# Altium integrated library ON Semi MOSFETs.IntLib: 1097 symbols (part 13 of 26)
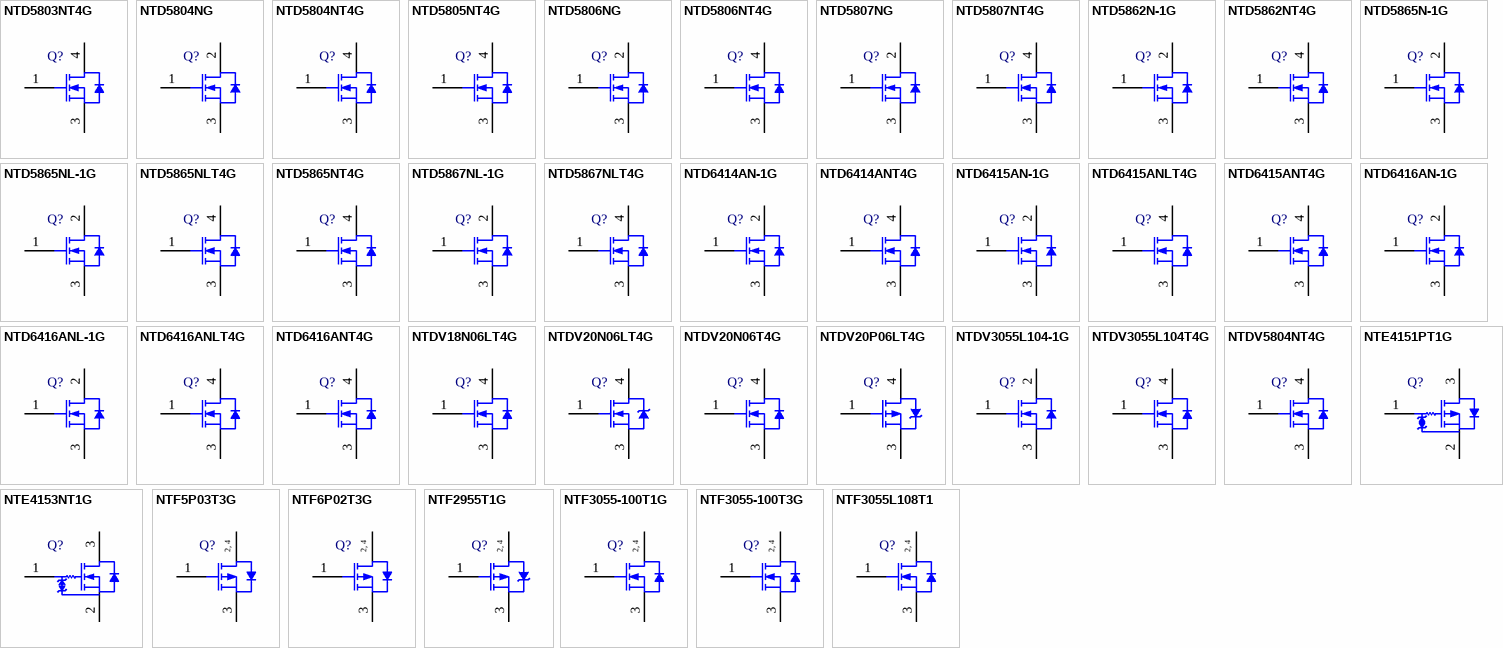
[diagram p43: symbols NTD5803NT4G to NTF3055L108T1]

## NTF2955T1G
designator Q?
Power MOSFET, -60 V, -2.6 A, Single P-Channel, 4-Pin SOT-223, Pb-Free, Tape and Reel; Manufacturer: On Semiconductor; PartNumber: NTF2955T1G; Channel Polarity: P Channel; Ciss Typ (pF): 492; Coss Typ (pF): 165; Crss Typ (pF): 50; ID Max (A): 2.6; Qrr Typ (nC): 0.139; V(BR)DSS Min (V): 60; VGS Max (V): 20; VGS(th) Max (V): 4; DatasheetVersion: Rev. 6; PackageVersion: Rev. N, 08/2009; PackageReference: SOT-223-4-318E-04; PackageDescription: 4-Pin Small Outline Transistor, Body 6.5 x 3.5 mm, Pitch 2.3 mm; Configuration: Single; Package Type: SOT-223-4 / TO-261-4; Packing: Tape and Reel; RoHS: Pb-Free; Mounting Technology: Surface Mount; ComponentLink1Description: Manufacturer URL; ComponentLink1URL: http://www.onsemi.com/; ComponentLink2Description: Datasheet; ComponentLink2URL: http://www.onsemi.com/pub_link/Collateral/NTF2955-D.PDF; ComponentLink3Description: Package Specification; ComponentLink3URL: http://www.onsemi.com/pub_link/Collateral/318E-04.PDF
footprint ONSC-SOT-223-4-318E-04_V (SOT223, 4-Leads, Body 6.5x3.5mm, Pitch 2.3mm)
pins: 1 G, 2 D, 3 S, 4 D
text: 2, 4

## NTF3055-100T1G
designator Q?
Power MOSFET, 3 A, 60 V, N-Channel, 4-Pin SOT-223, Pb-Free, Tape and Reel; Manufacturer: On Semiconductor; PartNumber: NTF3055-100T1G; Channel Polarity: N Channel; Ciss Typ (pF): 324; Configuration: Single; Coss Typ (pF): 35; Crss Typ (pF): 110; ID Max (A): 3; Qrr Typ (nC): 40; V(BR)DSS Min (V): 60; VGS(th) Max (V): 4; DatasheetVersion: Rev. 4; PackageVersion: Rev. N, 08/2009; PackageReference: SOT-223-4-318E-04; PackageDescription: 4-Pin Small Outline Transistor, Body 6.5 x 3.5 mm, Pitch 2.3 mm; Package Type: SOT-223-4 / TO-261-4; Packing: Tape and Reel; RoHS: Pb-Free; Mounting Technology: Surface Mount; ComponentLink1Description: Manufacturer URL; ComponentLink1URL: http://www.onsemi.com/; ComponentLink2Description: Datasheet; ComponentLink2URL: http://www.onsemi.com/pub_link/Collateral/NTF3055-100-D.PDF; ComponentLink3Description: Package Specification; ComponentLink3URL: http://www.onsemi.com/pub_link/Collateral/318E-04.PDF
footprint ONSC-SOT-223-4-318E-04_V (SOT223, 4-Leads, Body 6.5x3.5mm, Pitch 2.3mm)
pins: 1 G, 2 D, 3 S, 4 D
text: 2, 4

## NTF3055-100T3G
designator Q?
Power MOSFET, 3 A, 60 V, N-Channel, 4-Pin SOT-223, Pb-Free, Tape and Reel; Manufacturer: On Semiconductor; PartNumber: NTF3055-100T3G; Channel Polarity: N Channel; Ciss Typ (pF): 324; Configuration: Single; Coss Typ (pF): 35; Crss Typ (pF): 110; ID Max (A): 3; Qrr Typ (nC): 40; V(BR)DSS Min (V): 60; VGS(th) Max (V): 4; DatasheetVersion: Rev. 4; PackageVersion: Rev. N, 08/2009; PackageReference: SOT-223-4-318E-04; PackageDescription: 4-Pin Small Outline Transistor, Body 6.5 x 3.5 mm, Pitch 2.3 mm; Package Type: SOT-223-4 / TO-261-4; Packing: Tape and Reel; RoHS: Pb-Free; Mounting Technology: Surface Mount; ComponentLink1Description: Manufacturer URL; ComponentLink1URL: http://www.onsemi.com/; ComponentLink2Description: Datasheet; ComponentLink2URL: http://www.onsemi.com/pub_link/Collateral/NTF3055-100-D.PDF; ComponentLink3Description: Package Specification; ComponentLink3URL: http://www.onsemi.com/pub_link/Collateral/318E-04.PDF
footprint ONSC-SOT-223-4-318E-04_V (SOT223, 4-Leads, Body 6.5x3.5mm, Pitch 2.3mm)
pins: 1 G, 2 D, 3 S, 4 D
text: 2, 4

## NTF3055L108T1
designator Q?
Power MOSFET, 3 A, 60 V, Logic Level, N-Channel, 4-Pin SOT-223, Tape and Reel; Manufacturer: On Semiconductor; PartNumber: NTF3055L108T1; Channel Polarity: N Channel; Ciss Typ (pF): 313; Configuration: Single; Coss Typ (pF): 112; Crss Typ (pF): 40; Qrr Typ (nC): 44; V(BR)DSS Min (V): 60; VGS(th) Max (V): 2; DatasheetVersion: Rev. 6; PackageVersion: Rev. N, 08/2009; PackageReference: SOT-223-4-318E-04; PackageDescription: 4-Pin Small Outline Transistor, Body 6.5 x 3.5 mm, Pitch 2.3 mm; Package Type: SOT-223-4 / TO-261-4; Packing: Tape and Reel; Mounting Technology: Surface Mount; ComponentLink1Description: Manufacturer URL; ComponentLink1URL: http://www.onsemi.com/; ComponentLink2Description: Datasheet; ComponentLink2URL: http://www.onsemi.com/pub_link/Collateral/NTF3055L108-D.PDF; ComponentLink3Description: Package Specification; ComponentLink3URL: http://www.onsemi.com/pub_link/Collateral/318E-04.PDF
footprint ONSC-SOT-223-4-318E-04_V (SOT223, 4-Leads, Body 6.5x3.5mm, Pitch 2.3mm)
pins: 1 G, 2 D, 3 S, 4 D
text: 2, 4

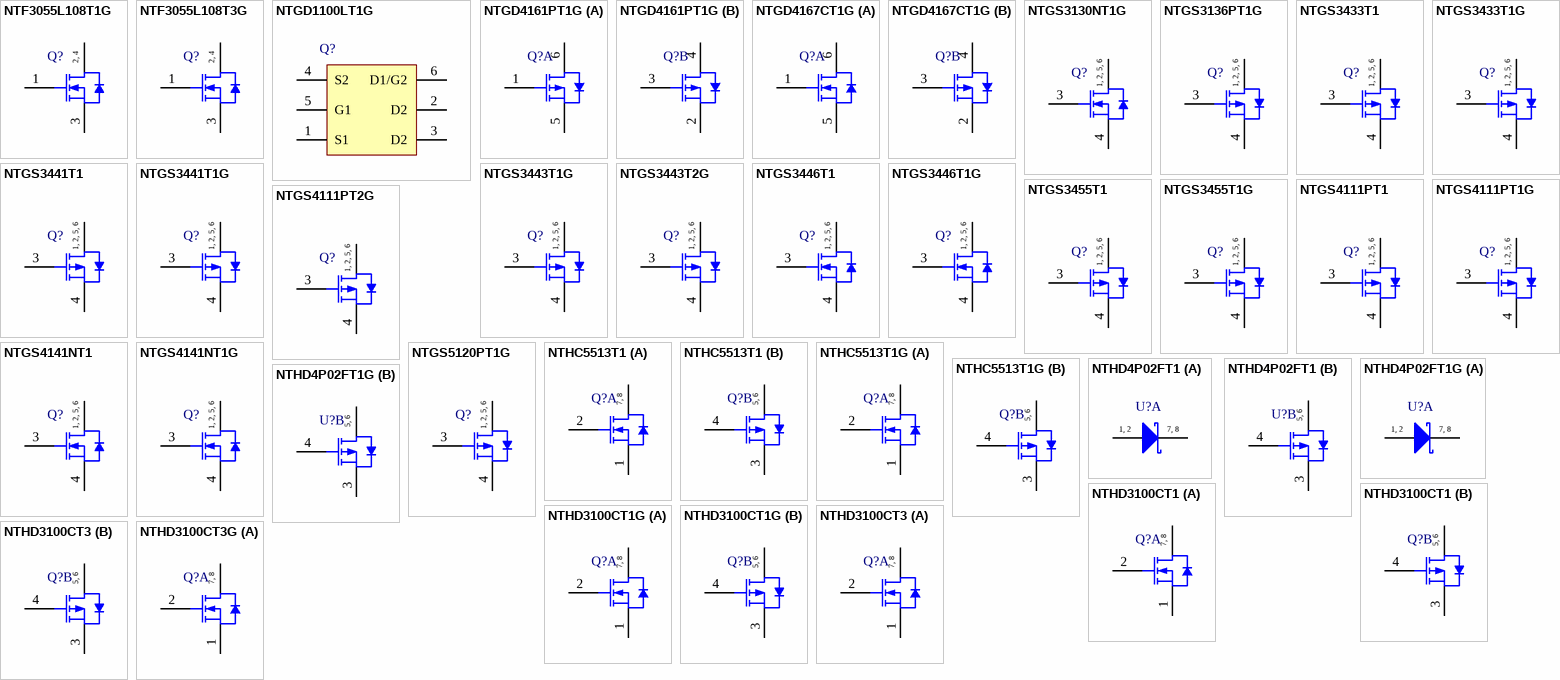
[diagram p14: symbols NTF3055L108T1G to NTHD3100CT3G]

## NTF3055L108T1G
designator Q?
Power MOSFET, 3 A, 60 V, Logic Level, N-Channel, 4-Pin SOT-223, Pb-Free, Tape and Reel; Manufacturer: On Semiconductor; PartNumber: NTF3055L108T1G; Channel Polarity: N Channel; Ciss Typ (pF): 313; Configuration: Single; Coss Typ (pF): 112; Crss Typ (pF): 40; Qrr Typ (nC): 44; V(BR)DSS Min (V): 60; VGS(th) Max (V): 2; DatasheetVersion: Rev. 6; PackageVersion: Rev. N, 08/2009; PackageReference: SOT-223-4-318E-04; PackageDescription: 4-Pin Small Outline Transistor, Body 6.5 x 3.5 mm, Pitch 2.3 mm; Package Type: SOT-223-4 / TO-261-4; Packing: Tape and Reel; RoHS: Pb-Free; Mounting Technology: Surface Mount; ComponentLink1Description: Manufacturer URL; ComponentLink1URL: http://www.onsemi.com/; ComponentLink2Description: Datasheet; ComponentLink2URL: http://www.onsemi.com/pub_link/Collateral/NTF3055L108-D.PDF; ComponentLink3Description: Package Specification; ComponentLink3URL: http://www.onsemi.com/pub_link/Collateral/318E-04.PDF
footprint ONSC-SOT-223-4-318E-04_V (SOT223, 4-Leads, Body 6.5x3.5mm, Pitch 2.3mm)
pins: 1 G, 2 D, 3 S, 4 D
text: 2, 4

## NTF3055L108T3G
designator Q?
Power MOSFET, 3 A, 60 V, Logic Level, N-Channel, 4-Pin SOT-223, Pb-Free, Tape and Reel; Manufacturer: On Semiconductor; PartNumber: NTF3055L108T3G; Channel Polarity: N Channel; Ciss Typ (pF): 313; Configuration: Single; Coss Typ (pF): 112; Crss Typ (pF): 40; Qrr Typ (nC): 44; V(BR)DSS Min (V): 60; VGS(th) Max (V): 2; DatasheetVersion: Rev. 6; PackageVersion: Rev. N, 08/2009; PackageReference: SOT-223-4-318E-04; PackageDescription: 4-Pin Small Outline Transistor, Body 6.5 x 3.5 mm, Pitch 2.3 mm; Package Type: SOT-223-4 / TO-261-4; Packing: Tape and Reel; RoHS: Pb-Free; Mounting Technology: Surface Mount; ComponentLink1Description: Manufacturer URL; ComponentLink1URL: http://www.onsemi.com/; ComponentLink2Description: Datasheet; ComponentLink2URL: http://www.onsemi.com/pub_link/Collateral/NTF3055L108-D.PDF; ComponentLink3Description: Package Specification; ComponentLink3URL: http://www.onsemi.com/pub_link/Collateral/318E-04.PDF
footprint ONSC-SOT-223-4-318E-04_V (SOT223, 4-Leads, Body 6.5x3.5mm, Pitch 2.3mm)
pins: 1 G, 2 D, 3 S, 4 D
text: 2, 4

## NTGD1100LT1G
designator Q?
Power MOSFET, 8 V, + / - 3.3 A, Load Switch with Level-Shift, P-Channel, 6-Pin TSOP, Pb-Free, Tape and Reel; Manufacturer: On Semiconductor; PartNumber: NTGD1100LT1G; Channel Polarity: P Channel; Configuration: Dual; ID Max (A): 3.3; DatasheetVersion: Rev. 10; PackageVersion: Rev. V, 06/2012; PackageReference: TSOP-6-318G-02; PackageDescription: 6-Pin Small Outline Package, Body 3 x 1.5 mm, Pitch 0.95 mm; Package Type: SC-74; Packing: Tape and Reel; RoHS: Pb-Free; Mounting Technology: Surface Mount; ComponentLink1Description: Manufacturer URL; ComponentLink1URL: http://www.onsemi.com/; ComponentLink2Description: Datasheet; ComponentLink2URL: http://www.onsemi.com/pub_link/Collateral/NTGD1100L-D.PDF; ComponentLink3Description: Package Specification; ComponentLink3URL: http://www.onsemi.com/pub_link/Collateral/318G-02.PDF
footprint ONSC-TSOP-6-318G-02_V (SOP, 6-Leads, Body 3x1.5mm, Pitch 0.95mm)
pins: 1 S1, 2 D2, 3 D2, 4 S2, 5 G1, 6 D1/G2

## NTGD4161PT1G
designator Q?
Power MOSFET, -30 V, -2.3 A, Dual P-Channel, 6-Pin TSOP, Pb-Free, Tape and Reel; Manufacturer: On Semiconductor; PartNumber: NTGD4161PT1G; Channel Polarity: P Channel; Ciss Typ (pF): 281; Coss Typ (pF): 50; Crss Typ (pF): 28; Qrr Typ (nC): 3; V(BR)DSS Min (V): 30; VGS Max (V): 20; DatasheetVersion: Rev. 1; PackageVersion: Rev. V, 06/2012; PackageReference: TSOP-6-318G-02; PackageDescription: 6-Pin Small Outline Package, Body 3 x 1.5 mm, Pitch 0.95 mm; Configuration: Dual; Package Type: TSOP-6; Packing: Tape and Reel; RoHS: Pb-Free; VGS(th) Max (V): 3; Mounting Technology: Surface Mount; ComponentLink1Description: Manufacturer URL; ComponentLink1URL: http://www.onsemi.com/; ComponentLink2Description: Datasheet; ComponentLink2URL: http://www.onsemi.com/pub_link/Collateral/NTGD4161P-D.PDF; ComponentLink3Description: Package Specification; ComponentLink3URL: http://www.onsemi.com/pub_link/Collateral/318G-02.PDF
footprint ONSC-TSOP-6-318G-02_V (SOP, 6-Leads, Body 3x1.5mm, Pitch 0.95mm)
part A pins: 1 G1, 5 S1, 6 D1
part B pins: 2 S2, 3 G2, 4 D2

## NTGD4167CT1G
designator Q?
Power MOSFET, Complementary, 30 V, +2.9 / -2.2 A, 6-Pin TSOP, Pb-Free, Tape and Reel; Manufacturer: On Semiconductor; PartNumber: NTGD4167CT1G; Configuration: Dual; V(BR)DSS Min (V): 30; VGS Max (V): 12; VGS(th) Max (V): 1.5; DatasheetVersion: Rev. 1; PackageVersion: Rev. V, 06/2012; PackageReference: TSOP-6-318G-02; PackageDescription: 6-Pin Small Outline Package, Body 3 x 1.5 mm, Pitch 0.95 mm; Channel Polarity: Complementary; Package Type: TSOP-6; Packing: Tape and Reel; RoHS: Pb-Free; Mounting Technology: Surface Mount; ComponentLink1Description: Manufacturer URL; ComponentLink1URL: http://www.onsemi.com/; ComponentLink2Description: Datasheet; ComponentLink2URL: http://www.onsemi.com/pub_link/Collateral/NTGD4167C-D.PDF; ComponentLink3Description: Package Specification; ComponentLink3URL: http://www.onsemi.com/pub_link/Collateral/318G-02.PDF
footprint ONSC-TSOP-6-318G-02_V (SOP, 6-Leads, Body 3x1.5mm, Pitch 0.95mm)
part A pins: 1 G1, 5 S1, 6 D1
part B pins: 2 S2, 3 G2, 4 D2

## NTGS3130NT1G
designator Q?
Power MOSFET, 20 V, 5.6 A Single, N-Channel, 6-Pin TSOP, Pb-Free, Tape and Reel; Manufacturer: On Semiconductor; PartNumber: NTGS3130NT1G; Channel Polarity: N Channel; Qrr Typ (nC): 8.8; V(BR)DSS Min (V): 20; VGS Max (V): 8; VGS(th) Max (V): 1.4; DatasheetVersion: Rev. 0; PackageVersion: Rev. V, 06/2012; PackageReference: TSOP-6-318G-02; PackageDescription: 6-Pin Small Outline Package, Body 3 x 1.5 mm, Pitch 0.95 mm; Configuration: Single; Package Type: TSOP-6; Packing: Tape and Reel; RoHS: Pb-Free; Mounting Technology: Surface Mount; ComponentLink1Description: Manufacturer URL; ComponentLink1URL: http://www.onsemi.com/; ComponentLink2Description: Datasheet; ComponentLink2URL: http://www.onsemi.com/pub_link/Collateral/NTGS3130N-D.PDF; ComponentLink3Description: Package Specification; ComponentLink3URL: http://www.onsemi.com/pub_link/Collateral/318G-02.PDF
footprint ONSC-TSOP-6-318G-02_V (SOP, 6-Leads, Body 3x1.5mm, Pitch 0.95mm)
pins: 1 D, 2 D, 3 G, 4 S, 5 D, 6 D
text: 1, 2, 5, 6

## NTGS3136PT1G
designator Q?
Power MOSFET, -20 V, -5.8 A, Single P-Channel, 6-Pin TSOP, Pb-Free, Tape and Reel; Manufacturer: On Semiconductor; PartNumber: NTGS3136PT1G; Channel Polarity: P Channel; Ciss Typ (pF): 1901; Coss Typ (pF): 274; Crss Typ (pF): 175; V(BR)DSS Min (V): 20; VGS Max (V): 8; VGS(th) Max (V): 1; DatasheetVersion: Rev. 0; PackageVersion: Rev. V, 06/2012; PackageReference: TSOP-6-318G-02; PackageDescription: 6-Pin Small Outline Package, Body 3 x 1.5 mm, Pitch 0.95 mm; Configuration: Single; Package Type: TSOP-6; Packing: Tape and Reel; RoHS: Pb-Free; Mounting Technology: Surface Mount; ComponentLink1Description: Manufacturer URL; ComponentLink1URL: http://www.onsemi.com/; ComponentLink2Description: Datasheet; ComponentLink2URL: http://www.onsemi.com/pub_link/Collateral/NTGS3136P-D.PDF; ComponentLink3Description: Package Specification; ComponentLink3URL: http://www.onsemi.com/pub_link/Collateral/318G-02.PDF
footprint ONSC-TSOP-6-318G-02_V (SOP, 6-Leads, Body 3x1.5mm, Pitch 0.95mm)
pins: 1 D, 2 D, 3 G, 4 S, 5 D, 6 D
text: 1, 2, 5, 6

## NTGS3433T1
designator Q?
MOSFET, -3.3 A, -12 V, P-Channel, 6-Pin TSOP, Tape and Reel; Manufacturer: On Semiconductor; PartNumber: NTGS3433T1; Channel Polarity: P Channel; Ciss Typ (pF): 550; Configuration: Single; Coss Typ (pF): 450; Crss Typ (pF): 200; ID Max (A): 3.3; V(BR)DSS Min (V): 12; VGS Max (V): 8; VGS(th) Max (V): 1.5; DatasheetVersion: Rev. 2; PackageVersion: Rev. V, 06/2012; PackageReference: TSOP-6-318G-02; PackageDescription: 6-Pin Small Outline Package, Body 3 x 1.5 mm, Pitch 0.95 mm; Package Type: TSOP-6; Packing: Tape and Reel; Mounting Technology: Surface Mount; ComponentLink1Description: Manufacturer URL; ComponentLink1URL: http://www.onsemi.com/; ComponentLink2Description: Datasheet; ComponentLink2URL: http://www.onsemi.com/pub_link/Collateral/NTGS3433T1-D.PDF; ComponentLink3Description: Package Specification; ComponentLink3URL: http://www.onsemi.com/pub_link/Collateral/318G-02.PDF
footprint ONSC-TSOP-6-318G-02_V (SOP, 6-Leads, Body 3x1.5mm, Pitch 0.95mm)
pins: 1 D, 2 D, 3 G, 4 S, 5 D, 6 D
text: 1, 2, 5, 6

## NTGS3433T1G
designator Q?
MOSFET, -3.3 A, -12 V, P-Channel, 6-Pin TSOP, Pb-Free, Tape and Reel; Manufacturer: On Semiconductor; PartNumber: NTGS3433T1G; Channel Polarity: P Channel; Ciss Typ (pF): 550; Configuration: Single; Coss Typ (pF): 450; Crss Typ (pF): 200; ID Max (A): 3.3; V(BR)DSS Min (V): 12; VGS Max (V): 8; VGS(th) Max (V): 1.5; DatasheetVersion: Rev. 2; PackageVersion: Rev. V, 06/2012; PackageReference: TSOP-6-318G-02; PackageDescription: 6-Pin Small Outline Package, Body 3 x 1.5 mm, Pitch 0.95 mm; Package Type: TSOP-6; Packing: Tape and Reel; RoHS: Pb-Free; Mounting Technology: Surface Mount; ComponentLink1Description: Manufacturer URL; ComponentLink1URL: http://www.onsemi.com/; ComponentLink2Description: Datasheet; ComponentLink2URL: http://www.onsemi.com/pub_link/Collateral/NTGS3433T1-D.PDF; ComponentLink3Description: Package Specification; ComponentLink3URL: http://www.onsemi.com/pub_link/Collateral/318G-02.PDF
footprint ONSC-TSOP-6-318G-02_V (SOP, 6-Leads, Body 3x1.5mm, Pitch 0.95mm)
pins: 1 D, 2 D, 3 G, 4 S, 5 D, 6 D
text: 1, 2, 5, 6

## NTGS3441T1
designator Q?
Power MOSFET, 1 A, 20 V, P-Channel, 6-Pin TSOP, Tape and Reel; Manufacturer: On Semiconductor; PartNumber: NTGS3441T1; Channel Polarity: P Channel; Ciss Typ (pF): 480; Configuration: Single; Coss Typ (pF): 265; Crss Typ (pF): 100; V(BR)DSS Min (V): 20; VGS Max (V): 8; VGS(th) Max (V): 1.5; DatasheetVersion: Rev. 6; PackageVersion: Rev. V, 06/2012; PackageReference: TSOP-6-318G-02; PackageDescription: 6-Pin Small Outline Package, Body 3 x 1.5 mm, Pitch 0.95 mm; Package Type: TSOP-6; Packing: Tape and Reel; Mounting Technology: Surface Mount; ComponentLink1Description: Manufacturer URL; ComponentLink1URL: http://www.onsemi.com/; ComponentLink2Description: Datasheet; ComponentLink2URL: http://www.onsemi.com/pub_link/Collateral/NTGS3441T1-D.PDF; ComponentLink3Description: Package Specification; ComponentLink3URL: http://www.onsemi.com/pub_link/Collateral/318G-02.PDF
footprint ONSC-TSOP-6-318G-02_V (SOP, 6-Leads, Body 3x1.5mm, Pitch 0.95mm)
pins: 1 D, 2 D, 3 G, 4 S, 5 D, 6 D
text: 1, 2, 5, 6

## NTGS3441T1G
designator Q?
Power MOSFET, 1 A, 20 V, P-Channel, 6-Pin TSOP, Pb-Free, Tape and Reel; Manufacturer: On Semiconductor; PartNumber: NTGS3441T1G; Channel Polarity: P Channel; Ciss Typ (pF): 480; Configuration: Single; Coss Typ (pF): 265; Crss Typ (pF): 100; V(BR)DSS Min (V): 20; VGS Max (V): 8; VGS(th) Max (V): 1.5; DatasheetVersion: Rev. 6; PackageVersion: Rev. V, 06/2012; PackageReference: TSOP-6-318G-02; PackageDescription: 6-Pin Small Outline Package, Body 3 x 1.5 mm, Pitch 0.95 mm; Package Type: TSOP-6; Packing: Tape and Reel; RoHS: Pb-Free; Mounting Technology: Surface Mount; ComponentLink1Description: Manufacturer URL; ComponentLink1URL: http://www.onsemi.com/; ComponentLink2Description: Datasheet; ComponentLink2URL: http://www.onsemi.com/pub_link/Collateral/NTGS3441T1-D.PDF; ComponentLink3Description: Package Specification; ComponentLink3URL: http://www.onsemi.com/pub_link/Collateral/318G-02.PDF
footprint ONSC-TSOP-6-318G-02_V (SOP, 6-Leads, Body 3x1.5mm, Pitch 0.95mm)
pins: 1 D, 2 D, 3 G, 4 S, 5 D, 6 D
text: 1, 2, 5, 6

## NTGS3443T1G
designator Q?
Power MOSFET, 4.4 A, 20 V, P-Channel, 6-Pin TSOP, Pb-Free, Tape and Reel; Manufacturer: On Semiconductor; PartNumber: NTGS3443T1G; Channel Polarity: P Channel; Ciss Typ (pF): 565; Configuration: Single; Coss Typ (pF): 320; Crss Typ (pF): 120; V(BR)DSS Min (V): 20; VGS Max (V): 12; VGS(th) Max (V): 1.5; DatasheetVersion: Rev. 5; PackageVersion: Rev. V, 06/2012; PackageReference: TSOP-6-318G-02; PackageDescription: 6-Pin Small Outline Package, Body 3 x 1.5 mm, Pitch 0.95 mm; Package Type: TSOP-6; Packing: Tape and Reel; RoHS: Pb-Free; Mounting Technology: Surface Mount; ComponentLink1Description: Manufacturer URL; ComponentLink1URL: http://www.onsemi.com/; ComponentLink2Description: Datasheet; ComponentLink2URL: http://www.onsemi.com/pub_link/Collateral/NTGS3443T1-D.PDF; ComponentLink3Description: Package Specification; ComponentLink3URL: http://www.onsemi.com/pub_link/Collateral/318G-02.PDF
footprint ONSC-TSOP-6-318G-02_V (SOP, 6-Leads, Body 3x1.5mm, Pitch 0.95mm)
pins: 1 D, 2 D, 3 G, 4 S, 5 D, 6 D
text: 1, 2, 5, 6

## NTGS3443T2G
designator Q?
Power MOSFET, 4.4 A, 20 V, P-Channel, 6-Pin TSOP, Pb-Free, Tape and Reel; Manufacturer: On Semiconductor; PartNumber: NTGS3443T2G; Channel Polarity: P Channel; Ciss Typ (pF): 565; Configuration: Single; Coss Typ (pF): 320; Crss Typ (pF): 120; V(BR)DSS Min (V): 20; VGS Max (V): 12; VGS(th) Max (V): 1.5; DatasheetVersion: Rev. 5; PackageVersion: Rev. V, 06/2012; PackageReference: TSOP-6-318G-02; PackageDescription: 6-Pin Small Outline Package, Body 3 x 1.5 mm, Pitch 0.95 mm; Package Type: TSOP-6; Packing: Tape and Reel; RoHS: Pb-Free; Mounting Technology: Surface Mount; ComponentLink1Description: Manufacturer URL; ComponentLink1URL: http://www.onsemi.com/; ComponentLink2Description: Datasheet; ComponentLink2URL: http://www.onsemi.com/pub_link/Collateral/NTGS3443T1-D.PDF; ComponentLink3Description: Package Specification; ComponentLink3URL: http://www.onsemi.com/pub_link/Collateral/318G-02.PDF
footprint ONSC-TSOP-6-318G-02_V (SOP, 6-Leads, Body 3x1.5mm, Pitch 0.95mm)
pins: 1 D, 2 D, 3 G, 4 S, 5 D, 6 D
text: 1, 2, 5, 6

## NTGS3446T1
designator Q?
Power MOSFET, 20 V, 5.1 A, Single N-Channel, 6-Pin TSOP, Tape and Reel; Manufacturer: On Semiconductor; PartNumber: NTGS3446T1; Channel Polarity: N Channel; Ciss Typ (pF): 510; Coss Typ (pF): 200; Crss Typ (pF): 60; ID Max (A): 5.1; Qrr Typ (nC): 10; V(BR)DSS Min (V): 20; VGS Max (V): 12; VGS(th) Max (V): 1.2; DatasheetVersion: Rev. 5; PackageVersion: Rev. V, 06/2012; PackageReference: TSOP-6-318G-02; PackageDescription: 6-Pin Small Outline Package, Body 3 x 1.5 mm, Pitch 0.95 mm; Configuration: Single; Package Type: TSOP-6; Packing: Tape and Reel; Mounting Technology: Surface Mount; ComponentLink1Description: Manufacturer URL; ComponentLink1URL: http://www.onsemi.com/; ComponentLink2Description: Datasheet; ComponentLink2URL: http://www.onsemi.com/pub_link/Collateral/NTGS3446-D.PDF; ComponentLink3Description: Package Specification; ComponentLink3URL: http://www.onsemi.com/pub_link/Collateral/318G-02.PDF
footprint ONSC-TSOP-6-318G-02_V (SOP, 6-Leads, Body 3x1.5mm, Pitch 0.95mm)
pins: 1 D, 2 D, 3 G, 4 S, 5 D, 6 D
text: 1, 2, 5, 6

## NTGS3446T1G
designator Q?
Power MOSFET, 20 V, 5.1 A, Single N-Channel, 6-Pin TSOP, Pb-Free, Tape and Reel; Manufacturer: On Semiconductor; PartNumber: NTGS3446T1G; Channel Polarity: N Channel; Ciss Typ (pF): 510; Coss Typ (pF): 200; Crss Typ (pF): 60; ID Max (A): 5.1; Qrr Typ (nC): 10; V(BR)DSS Min (V): 20; VGS Max (V): 12; VGS(th) Max (V): 1.2; DatasheetVersion: Rev. 5; PackageVersion: Rev. V, 06/2012; PackageReference: TSOP-6-318G-02; PackageDescription: 6-Pin Small Outline Package, Body 3 x 1.5 mm, Pitch 0.95 mm; Configuration: Single; Package Type: TSOP-6; Packing: Tape and Reel; RoHS: Pb-Free; Mounting Technology: Surface Mount; ComponentLink1Description: Manufacturer URL; ComponentLink1URL: http://www.onsemi.com/; ComponentLink2Description: Datasheet; ComponentLink2URL: http://www.onsemi.com/pub_link/Collateral/NTGS3446-D.PDF; ComponentLink3Description: Package Specification; ComponentLink3URL: http://www.onsemi.com/pub_link/Collateral/318G-02.PDF
footprint ONSC-TSOP-6-318G-02_V (SOP, 6-Leads, Body 3x1.5mm, Pitch 0.95mm)
pins: 1 D, 2 D, 3 G, 4 S, 5 D, 6 D
text: 1, 2, 5, 6

## NTGS3455T1
designator Q?
MOSFET, -3.5 A, -30 V, P-Channel, 6-Pin TSOP, Tape and Reel; Manufacturer: On Semiconductor; PartNumber: NTGS3455T1; Channel Polarity: P Channel; Ciss Typ (pF): 480; Configuration: Single; Coss Typ (pF): 220; Crss Typ (pF): 60; ID Max (A): 3.5; V(BR)DSS Min (V): 30; VGS Max (V): 20; VGS(th) Max (V): 3; DatasheetVersion: Rev. 3; PackageVersion: Rev. V, 06/2012; PackageReference: TSOP-6-318G-02; PackageDescription: 6-Pin Small Outline Package, Body 3 x 1.5 mm, Pitch 0.95 mm; Package Type: TSOP-6; Packing: Tape and Reel; Mounting Technology: Surface Mount; ComponentLink1Description: Manufacturer URL; ComponentLink1URL: http://www.onsemi.com/; ComponentLink2Description: Datasheet; ComponentLink2URL: http://www.onsemi.com/pub_link/Collateral/NTGS3455T1-D.PDF; ComponentLink3Description: Package Specification; ComponentLink3URL: http://www.onsemi.com/pub_link/Collateral/318G-02.PDF
footprint ONSC-TSOP-6-318G-02_V (SOP, 6-Leads, Body 3x1.5mm, Pitch 0.95mm)
pins: 1 D, 2 D, 3 G, 4 S, 5 D, 6 D
text: 1, 2, 5, 6

## NTGS3455T1G
designator Q?
MOSFET, -3.5 A, -30 V, P-Channel, 6-Pin TSOP, Pb-Free, Tape and Reel; Manufacturer: On Semiconductor; PartNumber: NTGS3455T1G; Channel Polarity: P Channel; Ciss Typ (pF): 480; Configuration: Single; Coss Typ (pF): 220; Crss Typ (pF): 60; ID Max (A): 3.5; V(BR)DSS Min (V): 30; VGS Max (V): 20; VGS(th) Max (V): 3; DatasheetVersion: Rev. 3; PackageVersion: Rev. V, 06/2012; PackageReference: TSOP-6-318G-02; PackageDescription: 6-Pin Small Outline Package, Body 3 x 1.5 mm, Pitch 0.95 mm; Package Type: TSOP-6; Packing: Tape and Reel; RoHS: Pb-Free; Mounting Technology: Surface Mount; ComponentLink1Description: Manufacturer URL; ComponentLink1URL: http://www.onsemi.com/; ComponentLink2Description: Datasheet; ComponentLink2URL: http://www.onsemi.com/pub_link/Collateral/NTGS3455T1-D.PDF; ComponentLink3Description: Package Specification; ComponentLink3URL: http://www.onsemi.com/pub_link/Collateral/318G-02.PDF
footprint ONSC-TSOP-6-318G-02_V (SOP, 6-Leads, Body 3x1.5mm, Pitch 0.95mm)
pins: 1 D, 2 D, 3 G, 4 S, 5 D, 6 D
text: 1, 2, 5, 6

## NTGS4111PT1
designator Q?
Power MOSFET, -30 V, -4.7 A, Single P-Channel, 6-Pin TSOP, Tape and Reel; Manufacturer: On Semiconductor; PartNumber: NTGS4111PT1; Channel Polarity: P Channel; Ciss Typ (pF): 750; Coss Typ (pF): 140; Crss Typ (pF): 105; ID Max (A): 4.7; Qrr Typ (nC): 8; V(BR)DSS Min (V): 30; VGS Max (V): 20; VGS(th) Max (V): 3; DatasheetVersion: Rev. 3; PackageVersion: Rev. V, 06/2012; PackageReference: TSOP-6-318G-02; PackageDescription: 6-Pin Small Outline Package, Body 3 x 1.5 mm, Pitch 0.95 mm; Configuration: Single; Package Type: TSOP-6; Packing: Tape and Reel; Mounting Technology: Surface Mount; ComponentLink1Description: Manufacturer URL; ComponentLink1URL: http://www.onsemi.com/; ComponentLink2Description: Datasheet; ComponentLink2URL: http://www.onsemi.com/pub_link/Collateral/NTGS4111P-D.PDF; ComponentLink3Description: Package Specification; ComponentLink3URL: http://www.onsemi.com/pub_link/Collateral/318G-02.PDF
footprint ONSC-TSOP-6-318G-02_V (SOP, 6-Leads, Body 3x1.5mm, Pitch 0.95mm)
pins: 1 D, 2 D, 3 G, 4 S, 5 D, 6 D
text: 1, 2, 5, 6

## NTGS4111PT1G
designator Q?
Power MOSFET, -30 V, -4.7 A, Single P-Channel, 6-Pin TSOP, Pb-Free, Tape and Reel; Manufacturer: On Semiconductor; PartNumber: NTGS4111PT1G; Channel Polarity: P Channel; Ciss Typ (pF): 750; Coss Typ (pF): 140; Crss Typ (pF): 105; ID Max (A): 4.7; Qrr Typ (nC): 8; V(BR)DSS Min (V): 30; VGS Max (V): 20; VGS(th) Max (V): 3; DatasheetVersion: Rev. 3; PackageVersion: Rev. V, 06/2012; PackageReference: TSOP-6-318G-02; PackageDescription: 6-Pin Small Outline Package, Body 3 x 1.5 mm, Pitch 0.95 mm; Configuration: Single; Package Type: TSOP-6; Packing: Tape and Reel; RoHS: Pb-Free; Mounting Technology: Surface Mount; ComponentLink1Description: Manufacturer URL; ComponentLink1URL: http://www.onsemi.com/; ComponentLink2Description: Datasheet; ComponentLink2URL: http://www.onsemi.com/pub_link/Collateral/NTGS4111P-D.PDF; ComponentLink3Description: Package Specification; ComponentLink3URL: http://www.onsemi.com/pub_link/Collateral/318G-02.PDF
footprint ONSC-TSOP-6-318G-02_V (SOP, 6-Leads, Body 3x1.5mm, Pitch 0.95mm)
pins: 1 D, 2 D, 3 G, 4 S, 5 D, 6 D
text: 1, 2, 5, 6

## NTGS4111PT2G
designator Q?
Power MOSFET, -30 V, -4.7 A, Single P-Channel, 6-Pin TSOP, Pb-Free, Tape and Reel; Manufacturer: On Semiconductor; PartNumber: NTGS4111PT2G; Channel Polarity: P Channel; Ciss Typ (pF): 750; Coss Typ (pF): 140; Crss Typ (pF): 105; ID Max (A): 4.7; Qrr Typ (nC): 8; V(BR)DSS Min (V): 30; VGS Max (V): 20; VGS(th) Max (V): 3; DatasheetVersion: Rev. 3; PackageVersion: Rev. V, 06/2012; PackageReference: TSOP-6-318G-02; PackageDescription: 6-Pin Small Outline Package, Body 3 x 1.5 mm, Pitch 0.95 mm; Configuration: Single; Package Type: TSOP-6; Packing: Tape and Reel; RoHS: Pb-Free; Mounting Technology: Surface Mount; ComponentLink1Description: Manufacturer URL; ComponentLink1URL: http://www.onsemi.com/; ComponentLink2Description: Datasheet; ComponentLink2URL: http://www.onsemi.com/pub_link/Collateral/NTGS4111P-D.PDF; ComponentLink3Description: Package Specification; ComponentLink3URL: http://www.onsemi.com/pub_link/Collateral/318G-02.PDF
footprint ONSC-TSOP-6-318G-02_V (SOP, 6-Leads, Body 3x1.5mm, Pitch 0.95mm)
pins: 1 D, 2 D, 3 G, 4 S, 5 D, 6 D
text: 1, 2, 5, 6

## NTGS4141NT1
designator Q?
Power MOSFET, 30 V, 7 A, Single N-Channel, 6-Pin TSOP, Tape and Reel; Manufacturer: On Semiconductor; PartNumber: NTGS4141NT1; Channel Polarity: N Channel; Ciss Typ (pF): 560; Coss Typ (pF): 115; Crss Typ (pF): 75; ID Max (A): 7; Qrr Typ (nC): 8; V(BR)DSS Min (V): 30; VGS Max (V): 20; VGS(th) Max (V): 3; DatasheetVersion: Rev. 5; PackageVersion: Rev. V, 06/2012; PackageReference: TSOP-6-318G-02; PackageDescription: 6-Pin Small Outline Package, Body 3 x 1.5 mm, Pitch 0.95 mm; Configuration: Single; Package Type: TSOP-6; Packing: Tape and Reel; Mounting Technology: Surface Mount; ComponentLink1Description: Manufacturer URL; ComponentLink1URL: http://www.onsemi.com/; ComponentLink2Description: Datasheet; ComponentLink2URL: http://www.onsemi.com/pub_link/Collateral/NTGS4141N-D.PDF; ComponentLink3Description: Package Specification; ComponentLink3URL: http://www.onsemi.com/pub_link/Collateral/318G-02.PDF
footprint ONSC-TSOP-6-318G-02_V (SOP, 6-Leads, Body 3x1.5mm, Pitch 0.95mm)
pins: 1 D, 2 D, 3 G, 4 S, 5 D, 6 D
text: 1, 2, 5, 6

## NTGS4141NT1G
designator Q?
Power MOSFET, 30 V, 7 A, Single N-Channel, 6-Pin TSOP, Pb-Free, Tape and Reel; Manufacturer: On Semiconductor; PartNumber: NTGS4141NT1G; Channel Polarity: N Channel; Ciss Typ (pF): 560; Coss Typ (pF): 115; Crss Typ (pF): 75; ID Max (A): 7; Qrr Typ (nC): 8; V(BR)DSS Min (V): 30; VGS Max (V): 20; VGS(th) Max (V): 3; DatasheetVersion: Rev. 5; PackageVersion: Rev. V, 06/2012; PackageReference: TSOP-6-318G-02; PackageDescription: 6-Pin Small Outline Package, Body 3 x 1.5 mm, Pitch 0.95 mm; Configuration: Single; Package Type: TSOP-6; Packing: Tape and Reel; RoHS: Pb-Free; Mounting Technology: Surface Mount; ComponentLink1Description: Manufacturer URL; ComponentLink1URL: http://www.onsemi.com/; ComponentLink2Description: Datasheet; ComponentLink2URL: http://www.onsemi.com/pub_link/Collateral/NTGS4141N-D.PDF; ComponentLink3Description: Package Specification; ComponentLink3URL: http://www.onsemi.com/pub_link/Collateral/318G-02.PDF
footprint ONSC-TSOP-6-318G-02_V (SOP, 6-Leads, Body 3x1.5mm, Pitch 0.95mm)
pins: 1 D, 2 D, 3 G, 4 S, 5 D, 6 D
text: 1, 2, 5, 6

## NTGS5120PT1G
designator Q?
Power MOSFET, -60 V, -2.9 A, Single P-Channel, 6-Pin TSOP, Pb-Free, Tape and Reel; Manufacturer: On Semiconductor; PartNumber: NTGS5120PT1G; Channel Polarity: P Channel; Ciss Typ (pF): 942; Coss Typ (pF): 72; Crss Typ (pF): 48; ID Max (A): 2.9; Qrr Typ (nC): 15.1; V(BR)DSS Min (V): 60; VGS Max (V): 20; VGS(th) Max (V): 3; DatasheetVersion: Rev. P0; PackageVersion: Rev. V, 06/2012; PackageReference: TSOP-6-318G-02; PackageDescription: 6-Pin Small Outline Package, Body 3 x 1.5 mm, Pitch 0.95 mm; Configuration: Single; Package Type: TSOP-6; Packing: Tape and Reel; RoHS: Pb-Free; Mounting Technology: Surface Mount; ComponentLink1Description: Manufacturer URL; ComponentLink1URL: http://www.onsemi.com/; ComponentLink2Description: Datasheet; ComponentLink2URL: http://www.onsemi.com/pub_link/Collateral/NTGS5120P-D.PDF; ComponentLink3Description: Package Specification; ComponentLink3URL: http://www.onsemi.com/pub_link/Collateral/318G-02.PDF
footprint ONSC-TSOP-6-318G-02_V (SOP, 6-Leads, Body 3x1.5mm, Pitch 0.95mm)
pins: 1 D, 2 D, 3 G, 4 S, 5 D, 6 D
text: 1, 2, 5, 6

## NTHC5513T1
designator Q?
Power MOSFET, 20 V, +3.9 A / -3 A, Comlementary, 8-Pin CHIPFET, Tape and Reel; Manufacturer: On Semiconductor; PartNumber: NTHC5513T1; Channel Polarity: Complementary; Configuration: Dual; V(BR)DSS Min (V): 20; VGS Max (V): 12; VGS(th) Max (V): 1.2; DatasheetVersion: Rev. 4; PackageVersion: Rev. E, 10/2004; PackageReference: CHIPFET-8-1206A-03_S2; PackageDescription: 8-Pin ChipFET, Body 3.025 x 1.625 mm, Pitch 0.635 mm; Package Type: ChipFET-8; Packing: Tape and Reel; Mounting Technology: Surface Mount; ComponentLink1Description: Manufacturer URL; ComponentLink1URL: http://www.onsemi.com/; ComponentLink2Description: Datasheet; ComponentLink2URL: http://www.onsemi.com/pub_link/Collateral/NTHC5513-D.PDF; ComponentLink3Description: Package Specification; ComponentLink3URL: http://www.onsemi.com/pub_link/Collateral/NTHC5513-D.PDF
footprint ONSC-CHIPFET-8-1206A-03_S2_V (SON, 8-Leads, Body 3.025x1.625mm, Pitch 0.635mm)
part A pins: 1 S1, 2 G1, 7 D1, 8 D1
part B pins: 3 S2, 4 G2, 5 D2, 6 D2
part A text: 7, 8
part B text: 5, 6

## NTHC5513T1G
designator Q?
Power MOSFET, 20 V, +3.9 A / -3 A, Comlementary, 8-Pin CHIPFET, Pb-Free, Tape and Reel; Manufacturer: On Semiconductor; PartNumber: NTHC5513T1G; Channel Polarity: Complementary; Configuration: Dual; V(BR)DSS Min (V): 20; VGS Max (V): 12; VGS(th) Max (V): 1.2; DatasheetVersion: Rev. 4; PackageVersion: Rev. E, 10/2004; PackageReference: CHIPFET-8-1206A-03_S2; PackageDescription: 8-Pin ChipFET, Body 3.025 x 1.625 mm, Pitch 0.635 mm; Package Type: ChipFET-8; Packing: Tape and Reel; RoHS: Pb-Free; Mounting Technology: Surface Mount; ComponentLink1Description: Manufacturer URL; ComponentLink1URL: http://www.onsemi.com/; ComponentLink2Description: Datasheet; ComponentLink2URL: http://www.onsemi.com/pub_link/Collateral/NTHC5513-D.PDF; ComponentLink3Description: Package Specification; ComponentLink3URL: http://www.onsemi.com/pub_link/Collateral/NTHC5513-D.PDF
footprint ONSC-CHIPFET-8-1206A-03_S2_V (SON, 8-Leads, Body 3.025x1.625mm, Pitch 0.635mm)
part A pins: 1 S1, 2 G1, 7 D1, 8 D1
part B pins: 3 S2, 4 G2, 5 D2, 6 D2
part A text: 7, 8
part B text: 5, 6

## NTHD4P02FT1
designator U?
Power MOSFET and Schottky Diode, -20 V, -3 A, Single P-Channel with 3 A, 8-Pin CHIPFET, Tape and Reel; Manufacturer: On Semiconductor; PartNumber: NTHD4P02FT1; Channel Polarity: P Channel; Ciss Typ (pF): 185; Configuration: with Schottky Diode; Coss Typ (pF): 95; Crss Typ (pF): 30; ID Max (A): 3; Qrr Typ (nC): 15; V(BR)DSS Min (V): 20; VGS Max (V): 12; VGS(th) Max (V): 1.2; DatasheetVersion: Rev. 7; PackageVersion: Rev. J, 11/2008; PackageReference: CHIPFET-8-1206A-03_S3; PackageDescription: 8-Pin ChipFET, Body 3.025 x 1.625 mm, Pitch 0.635 mm; Package Type: ChipFET-8; Packing: Tape and Reel; Mounting Technology: Surface Mount; ComponentLink1Description: Manufacturer URL; ComponentLink1URL: http://www.onsemi.com/; ComponentLink2Description: Datasheet; ComponentLink2URL: http://www.onsemi.com/pub_link/Collateral/NTHD4P02F.PDF; ComponentLink3Description: Package Specification; ComponentLink3URL: http://www.onsemi.com/pub_link/Collateral/NTHD3101F-D.PDF
footprint ONSC-CHIPFET-8-1206A-03_S3_V (SON, 8-Leads, Body 3.025x1.625mm, Pitch 0.65mm)
part A pins: 1 A, 2 A, 7 K, 8 K
part B pins: 3 S, 4 G, 5 D, 6 D
part A text: 1, 2; 7, 8
part B text: 5, 6

## NTHD4P02FT1G
designator U?
Power MOSFET and Schottky Diode, -20 V, -3 A, Single P-Channel with 3 A, 8-Pin CHIPFET, Pb-Free, Tape and Reel; Manufacturer: On Semiconductor; PartNumber: NTHD4P02FT1G; Channel Polarity: P Channel; Ciss Typ (pF): 185; Configuration: with Schottky Diode; Coss Typ (pF): 95; Crss Typ (pF): 30; ID Max (A): 3; Qrr Typ (nC): 15; V(BR)DSS Min (V): 20; VGS Max (V): 12; VGS(th) Max (V): 1.2; DatasheetVersion: Rev. 7; PackageVersion: Rev. J, 11/2008; PackageReference: CHIPFET-8-1206A-03_S3; PackageDescription: 8-Pin ChipFET, Body 3.025 x 1.625 mm, Pitch 0.635 mm; Package Type: ChipFET-8; Packing: Tape and Reel; RoHS: Pb-Free; Mounting Technology: Surface Mount; ComponentLink1Description: Manufacturer URL; ComponentLink1URL: http://www.onsemi.com/; ComponentLink2Description: Datasheet; ComponentLink2URL: http://www.onsemi.com/pub_link/Collateral/NTHD4P02F.PDF; ComponentLink3Description: Package Specification; ComponentLink3URL: http://www.onsemi.com/pub_link/Collateral/NTHD3101F-D.PDF
footprint ONSC-CHIPFET-8-1206A-03_S3_V (SON, 8-Leads, Body 3.025x1.625mm, Pitch 0.65mm)
part A pins: 1 A, 2 A, 7 K, 8 K
part B pins: 3 S, 4 G, 5 D, 6 D
part A text: 1, 2; 7, 8
part B text: 5, 6

## NTHD3100CT1
designator Q?
Power MOSFET, 20 V, +3.9 A / -4.4 A, Complementary, 8-Pin CHIPFET, Tape and Reel; Manufacturer: On Semiconductor; PartNumber: NTHD3100CT1; Configuration: Dual; V(BR)DSS Min (V): 20; DatasheetVersion: Rev. 3; PackageVersion: Rev. E, 10/2004; PackageReference: CHIPFET-8-1206A-03_S2; PackageDescription: 8-Pin ChipFET, Body 3.025 x 1.625 mm, Pitch 0.635 mm; Channel Polarity: Complementary; Package Type: ChipFET-8; Packing: Tape and Reel; Mounting Technology: Surface Mount; ComponentLink1Description: Manufacturer URL; ComponentLink1URL: http://www.onsemi.com/; ComponentLink2Description: Datasheet; ComponentLink2URL: http://www.onsemi.com/pub_link/Collateral/NTHD3100C-D.PDF; ComponentLink3Description: Package Specification; ComponentLink3URL: http://www.onsemi.com/pub_link/Collateral/NTHC5513-D.PDF
footprint ONSC-CHIPFET-8-1206A-03_S2_V (SON, 8-Leads, Body 3.025x1.625mm, Pitch 0.635mm)
part A pins: 1 S1, 2 G1, 7 D1, 8 D1
part B pins: 3 S2, 4 G2, 5 D2, 6 D2
part A text: 7, 8
part B text: 5, 6

## NTHD3100CT1G
designator Q?
Power MOSFET, 20 V, +3.9 A / -4.4 A, Complementary, 8-Pin CHIPFET, Pb-Free, Tape and Reel; Manufacturer: On Semiconductor; PartNumber: NTHD3100CT1G; Configuration: Dual; V(BR)DSS Min (V): 20; DatasheetVersion: Rev. 3; PackageVersion: Rev. E, 10/2004; PackageReference: CHIPFET-8-1206A-03_S2; PackageDescription: 8-Pin ChipFET, Body 3.025 x 1.625 mm, Pitch 0.635 mm; Channel Polarity: Complementary; Package Type: ChipFET-8; Packing: Tape and Reel; RoHS: Pb-Free; Mounting Technology: Surface Mount; ComponentLink1Description: Manufacturer URL; ComponentLink1URL: http://www.onsemi.com/; ComponentLink2Description: Datasheet; ComponentLink2URL: http://www.onsemi.com/pub_link/Collateral/NTHD3100C-D.PDF; ComponentLink3Description: Package Specification; ComponentLink3URL: http://www.onsemi.com/pub_link/Collateral/NTHC5513-D.PDF
footprint ONSC-CHIPFET-8-1206A-03_S2_V (SON, 8-Leads, Body 3.025x1.625mm, Pitch 0.635mm)
part A pins: 1 S1, 2 G1, 7 D1, 8 D1
part B pins: 3 S2, 4 G2, 5 D2, 6 D2
part A text: 7, 8
part B text: 5, 6

## NTHD3100CT3
designator Q?
Power MOSFET, 20 V, +3.9 A / -4.4 A, Complementary, 8-Pin CHIPFET, Tape and Reel; Manufacturer: On Semiconductor; PartNumber: NTHD3100CT3; Configuration: Dual; V(BR)DSS Min (V): 20; DatasheetVersion: Rev. 3; PackageVersion: Rev. E, 10/2004; PackageReference: CHIPFET-8-1206A-03_S2; PackageDescription: 8-Pin ChipFET, Body 3.025 x 1.625 mm, Pitch 0.635 mm; Channel Polarity: Complementary; Package Type: ChipFET-8; Packing: Tape and Reel; Mounting Technology: Surface Mount; ComponentLink1Description: Manufacturer URL; ComponentLink1URL: http://www.onsemi.com/; ComponentLink2Description: Datasheet; ComponentLink2URL: http://www.onsemi.com/pub_link/Collateral/NTHD3100C-D.PDF; ComponentLink3Description: Package Specification; ComponentLink3URL: http://www.onsemi.com/pub_link/Collateral/NTHC5513-D.PDF
footprint ONSC-CHIPFET-8-1206A-03_S2_V (SON, 8-Leads, Body 3.025x1.625mm, Pitch 0.635mm)
part A pins: 1 S1, 2 G1, 7 D1, 8 D1
part B pins: 3 S2, 4 G2, 5 D2, 6 D2
part A text: 7, 8
part B text: 5, 6

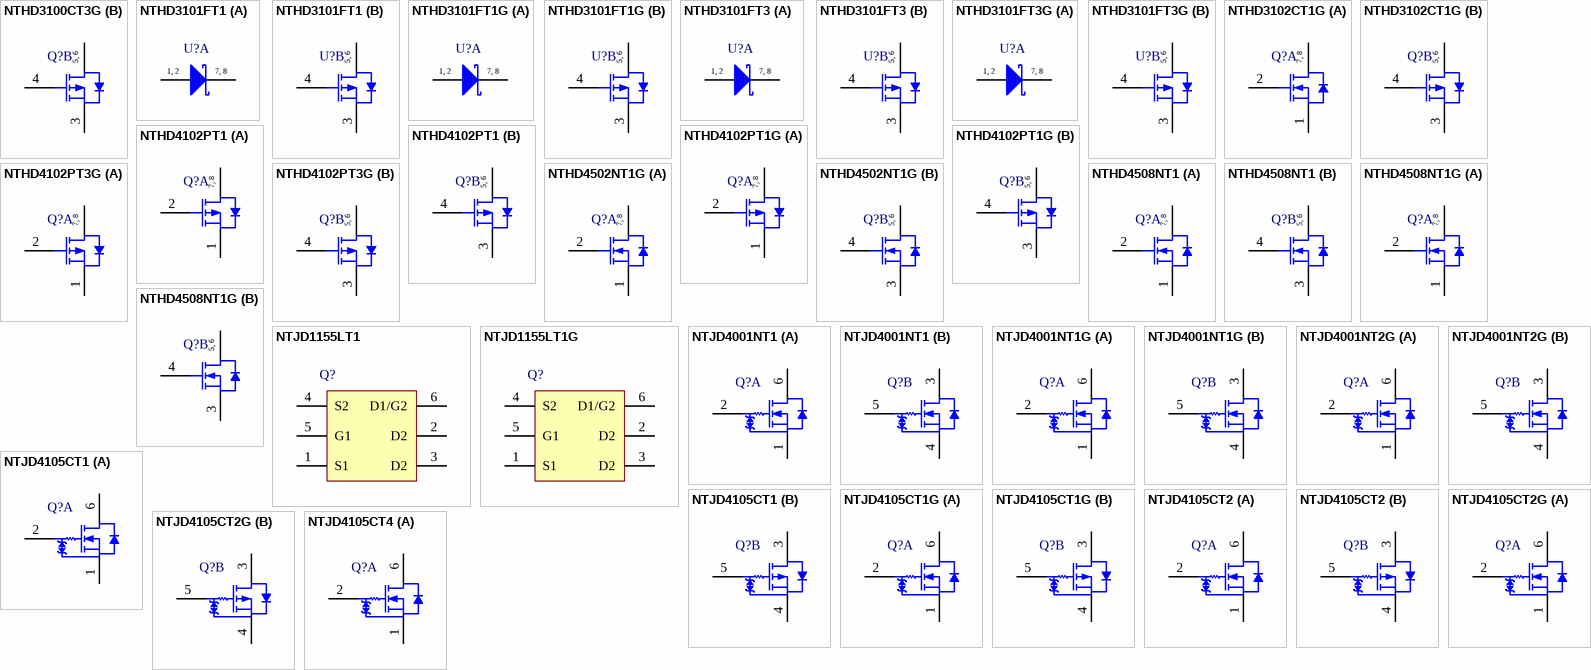
[diagram p15: symbols NTHD3100CT3G to NTJD4105CT4]

## NTHD3100CT3G
designator Q?
Power MOSFET, 20 V, +3.9 A / -4.4 A, Complementary, 8-Pin CHIPFET, Pb-Free, Tape and Reel; Manufacturer: On Semiconductor; PartNumber: NTHD3100CT3G; Configuration: Dual; V(BR)DSS Min (V): 20; DatasheetVersion: Rev. 3; PackageVersion: Rev. E, 10/2004; PackageReference: CHIPFET-8-1206A-03_S2; PackageDescription: 8-Pin ChipFET, Body 3.025 x 1.625 mm, Pitch 0.635 mm; Channel Polarity: Complementary; Package Type: ChipFET-8; Packing: Tape and Reel; RoHS: Pb-Free; Mounting Technology: Surface Mount; ComponentLink1Description: Manufacturer URL; ComponentLink1URL: http://www.onsemi.com/; ComponentLink2Description: Datasheet; ComponentLink2URL: http://www.onsemi.com/pub_link/Collateral/NTHD3100C-D.PDF; ComponentLink3Description: Package Specification; ComponentLink3URL: http://www.onsemi.com/pub_link/Collateral/NTHC5513-D.PDF
footprint ONSC-CHIPFET-8-1206A-03_S2_V (SON, 8-Leads, Body 3.025x1.625mm, Pitch 0.635mm)
part A pins: 1 S1, 2 G1, 7 D1, 8 D1
part B pins: 3 S2, 4 G2, 5 D2, 6 D2
part A text: 7, 8
part B text: 5, 6

## NTHD3101FT1
designator U?
Power MOSFET and Schottky Diode, -20 V, FETKY(TM), P-Channel, -4.4 A, with 4.1 A, 8-Pin CHIPFET, Tape and Reel; Manufacturer: On Semiconductor; PartNumber: NTHD3101FT1; Channel Polarity: P Channel; Ciss Typ (pF): 680; Configuration: with Schottky Diode; Coss Typ (pF): 100; Crss Typ (pF): 70; ID Max (A): 4.4; Qrr Typ (nC): 6.5; V(BR)DSS Min (V): 20; VGS Max (V): 8; VGS(th) Max (V): 1.5; DatasheetVersion: Rev. J; PackageVersion: Rev. J, 11/2008; PackageReference: CHIPFET-8-1206A-03_S3; PackageDescription: 8-Pin ChipFET, Body 3.025 x 1.625 mm, Pitch 0.635 mm; Package Type: ChipFET-8; Packing: Tape and Reel; Mounting Technology: Surface Mount; ComponentLink1Description: Manufacturer URL; ComponentLink1URL: http://www.onsemi.com/; ComponentLink2Description: Datasheet; ComponentLink2URL: http://www.onsemi.com/pub_link/Collateral/NTHD3101F-D.PDF; ComponentLink3Description: Package Specification; ComponentLink3URL: http://www.onsemi.com/pub_link/Collateral/NTHD3101F-D.PDF
footprint ONSC-CHIPFET-8-1206A-03_S3_V (SON, 8-Leads, Body 3.025x1.625mm, Pitch 0.65mm)
part A pins: 1 A, 2 A, 7 K, 8 K
part B pins: 3 S, 4 G, 5 D, 6 D
part A text: 1, 2; 7, 8
part B text: 5, 6

## NTHD3101FT1G
designator U?
Power MOSFET and Schottky Diode, -20 V, FETKY(TM), P-Channel, -4.4 A, with 4.1 A, 8-Pin CHIPFET, Pb-Free, Tape and Reel; Manufacturer: On Semiconductor; PartNumber: NTHD3101FT1G; Channel Polarity: P Channel; Ciss Typ (pF): 680; Configuration: with Schottky Diode; Coss Typ (pF): 100; Crss Typ (pF): 70; ID Max (A): 4.4; Qrr Typ (nC): 6.5; V(BR)DSS Min (V): 20; VGS Max (V): 8; VGS(th) Max (V): 1.5; DatasheetVersion: Rev. J; PackageVersion: Rev. J, 11/2008; PackageReference: CHIPFET-8-1206A-03_S3; PackageDescription: 8-Pin ChipFET, Body 3.025 x 1.625 mm, Pitch 0.635 mm; Package Type: ChipFET-8; Packing: Tape and Reel; RoHS: Pb-Free; Mounting Technology: Surface Mount; ComponentLink1Description: Manufacturer URL; ComponentLink1URL: http://www.onsemi.com/; ComponentLink2Description: Datasheet; ComponentLink2URL: http://www.onsemi.com/pub_link/Collateral/NTHD3101F-D.PDF; ComponentLink3Description: Package Specification; ComponentLink3URL: http://www.onsemi.com/pub_link/Collateral/NTHD3101F-D.PDF
footprint ONSC-CHIPFET-8-1206A-03_S3_V (SON, 8-Leads, Body 3.025x1.625mm, Pitch 0.65mm)
part A pins: 1 A, 2 A, 7 K, 8 K
part B pins: 3 S, 4 G, 5 D, 6 D
part A text: 1, 2; 7, 8
part B text: 5, 6

## NTHD3101FT3
designator U?
Power MOSFET and Schottky Diode, -20 V, FETKY(TM), P-Channel, -4.4 A, with 4.1 A, 8-Pin CHIPFET, Tape and Reel; Manufacturer: On Semiconductor; PartNumber: NTHD3101FT3; Channel Polarity: P Channel; Ciss Typ (pF): 680; Configuration: with Schottky Diode; Coss Typ (pF): 100; Crss Typ (pF): 70; ID Max (A): 4.4; Qrr Typ (nC): 6.5; V(BR)DSS Min (V): 20; VGS Max (V): 8; VGS(th) Max (V): 1.5; DatasheetVersion: Rev. J; PackageVersion: Rev. J, 11/2008; PackageReference: CHIPFET-8-1206A-03_S3; PackageDescription: 8-Pin ChipFET, Body 3.025 x 1.625 mm, Pitch 0.635 mm; Package Type: ChipFET-8; Packing: Tape and Reel; Mounting Technology: Surface Mount; ComponentLink1Description: Manufacturer URL; ComponentLink1URL: http://www.onsemi.com/; ComponentLink2Description: Datasheet; ComponentLink2URL: http://www.onsemi.com/pub_link/Collateral/NTHD3101F-D.PDF; ComponentLink3Description: Package Specification; ComponentLink3URL: http://www.onsemi.com/pub_link/Collateral/NTHD3101F-D.PDF
footprint ONSC-CHIPFET-8-1206A-03_S3_V (SON, 8-Leads, Body 3.025x1.625mm, Pitch 0.65mm)
part A pins: 1 A, 2 A, 7 K, 8 K
part B pins: 3 S, 4 G, 5 D, 6 D
part A text: 1, 2; 7, 8
part B text: 5, 6

## NTHD3101FT3G
designator U?
Power MOSFET and Schottky Diode, -20 V, FETKY(TM), P-Channel, -4.4 A, with 4.1 A, 8-Pin CHIPFET, Pb-Free, Tape and Reel; Manufacturer: On Semiconductor; PartNumber: NTHD3101FT3G; Channel Polarity: P Channel; Ciss Typ (pF): 680; Configuration: with Schottky Diode; Coss Typ (pF): 100; Crss Typ (pF): 70; ID Max (A): 4.4; Qrr Typ (nC): 6.5; V(BR)DSS Min (V): 20; VGS Max (V): 8; VGS(th) Max (V): 1.5; DatasheetVersion: Rev. J; PackageVersion: Rev. J, 11/2008; PackageReference: CHIPFET-8-1206A-03_S3; PackageDescription: 8-Pin ChipFET, Body 3.025 x 1.625 mm, Pitch 0.635 mm; Package Type: ChipFET-8; Packing: Tape and Reel; RoHS: Pb-Free; Mounting Technology: Surface Mount; ComponentLink1Description: Manufacturer URL; ComponentLink1URL: http://www.onsemi.com/; ComponentLink2Description: Datasheet; ComponentLink2URL: http://www.onsemi.com/pub_link/Collateral/NTHD3101F-D.PDF; ComponentLink3Description: Package Specification; ComponentLink3URL: http://www.onsemi.com/pub_link/Collateral/NTHD3101F-D.PDF
footprint ONSC-CHIPFET-8-1206A-03_S3_V (SON, 8-Leads, Body 3.025x1.625mm, Pitch 0.65mm)
part A pins: 1 A, 2 A, 7 K, 8 K
part B pins: 3 S, 4 G, 5 D, 6 D
part A text: 1, 2; 7, 8
part B text: 5, 6

## NTHD3102CT1G
designator Q?
Power MOSFET, Complementary, 20 V, 5.5 A / -4.2 V, 8-Pin CHIPFET, Pb-Free, Tape and Reel; Manufacturer: On Semiconductor; PartNumber: NTHD3102CT1G; Configuration: Dual; Coss Typ (pF): 100; Crss Typ (pF): 50; V(BR)DSS Min (V): 20; VGS Max (V): 8; VGS(th) Max (V): 1.2; DatasheetVersion: Rev. 2; PackageVersion: Rev. E, 10/2004; PackageReference: CHIPFET-8-1206A-03_S2; PackageDescription: 8-Pin ChipFET, Body 3.025 x 1.625 mm, Pitch 0.635 mm; Channel Polarity: Complementary; Package Type: ChipFET-8; Packing: Tape and Reel; RoHS: Pb-Free; Mounting Technology: Surface Mount; ComponentLink1Description: Manufacturer URL; ComponentLink1URL: http://www.onsemi.com/; ComponentLink2Description: Datasheet; ComponentLink2URL: http://www.onsemi.com/pub_link/Collateral/NTHD3102C-D.PDF; ComponentLink3Description: Package Specification; ComponentLink3URL: http://www.onsemi.com/pub_link/Collateral/NTHC5513-D.PDF
footprint ONSC-CHIPFET-8-1206A-03_S2_V (SON, 8-Leads, Body 3.025x1.625mm, Pitch 0.635mm)
part A pins: 1 S1, 2 G1, 7 D1, 8 D1
part B pins: 3 S2, 4 G2, 5 D2, 6 D2
part A text: 7, 8
part B text: 5, 6

## NTHD4102PT1
designator Q?
Power MOSFET, -20 V, -4.1 A, Dual P-Channel, 8-Pin CHIPFET, Tape and Reel; Manufacturer: On Semiconductor; PartNumber: NTHD4102PT1; Channel Polarity: P Channel; Ciss Typ (pF): 750; Coss Typ (pF): 100; Crss Typ (pF): 45; ID Max (A): 4.1; Qrr Typ (nC): 10; V(BR)DSS Min (V): 20; VGS Max (V): 8; VGS(th) Max (V): 1.5; DatasheetVersion: Rev. 6; PackageVersion: Rev. E, 10/2004; PackageReference: CHIPFET-8-1206A-03_S2; PackageDescription: 8-Pin ChipFET, Body 3.025 x 1.625 mm, Pitch 0.635 mm; Configuration: Dual; Package Type: ChipFET-8; Packing: Tape and Reel; Mounting Technology: Surface Mount; ComponentLink1Description: Manufacturer URL; ComponentLink1URL: http://www.onsemi.com/; ComponentLink2Description: Datasheet; ComponentLink2URL: http://www.onsemi.com/pub_link/Collateral/NTHD4102P-D.PDF; ComponentLink3Description: Package Specification; ComponentLink3URL: http://www.onsemi.com/pub_link/Collateral/NTHC5513-D.PDF
footprint ONSC-CHIPFET-8-1206A-03_S2_V (SON, 8-Leads, Body 3.025x1.625mm, Pitch 0.635mm)
part A pins: 1 S1, 2 G1, 7 D1, 8 D1
part B pins: 3 S2, 4 G2, 5 D2, 6 D2
part A text: 7, 8
part B text: 5, 6

## NTHD4102PT1G
designator Q?
Power MOSFET, -20 V, -4.1 A, Dual P-Channel, 8-Pin CHIPFET, Pb-Free, Tape and Reel; Manufacturer: On Semiconductor; PartNumber: NTHD4102PT1G; Channel Polarity: P Channel; Ciss Typ (pF): 750; Coss Typ (pF): 100; Crss Typ (pF): 45; ID Max (A): 4.1; Qrr Typ (nC): 10; V(BR)DSS Min (V): 20; VGS Max (V): 8; VGS(th) Max (V): 1.5; DatasheetVersion: Rev. 6; PackageVersion: Rev. E, 10/2004; PackageReference: CHIPFET-8-1206A-03_S2; PackageDescription: 8-Pin ChipFET, Body 3.025 x 1.625 mm, Pitch 0.635 mm; Configuration: Dual; Package Type: ChipFET-8; Packing: Tape and Reel; RoHS: Pb-Free; Mounting Technology: Surface Mount; ComponentLink1Description: Manufacturer URL; ComponentLink1URL: http://www.onsemi.com/; ComponentLink2Description: Datasheet; ComponentLink2URL: http://www.onsemi.com/pub_link/Collateral/NTHD4102P-D.PDF; ComponentLink3Description: Package Specification; ComponentLink3URL: http://www.onsemi.com/pub_link/Collateral/NTHC5513-D.PDF
footprint ONSC-CHIPFET-8-1206A-03_S2_V (SON, 8-Leads, Body 3.025x1.625mm, Pitch 0.635mm)
part A pins: 1 S1, 2 G1, 7 D1, 8 D1
part B pins: 3 S2, 4 G2, 5 D2, 6 D2
part A text: 7, 8
part B text: 5, 6

## NTHD4102PT3G
designator Q?
Power MOSFET, -20 V, -4.1 A, Dual P-Channel, 8-Pin CHIPFET, Pb-Free, Tape and Reel; Manufacturer: On Semiconductor; PartNumber: NTHD4102PT3G; Channel Polarity: P Channel; Ciss Typ (pF): 750; Coss Typ (pF): 100; Crss Typ (pF): 45; ID Max (A): 4.1; Qrr Typ (nC): 10; V(BR)DSS Min (V): 20; VGS Max (V): 8; VGS(th) Max (V): 1.5; DatasheetVersion: Rev. 6; PackageVersion: Rev. E, 10/2004; PackageReference: CHIPFET-8-1206A-03_S2; PackageDescription: 8-Pin ChipFET, Body 3.025 x 1.625 mm, Pitch 0.635 mm; Configuration: Dual; Package Type: ChipFET-8; Packing: Tape and Reel; RoHS: Pb-Free; Mounting Technology: Surface Mount; ComponentLink1Description: Manufacturer URL; ComponentLink1URL: http://www.onsemi.com/; ComponentLink2Description: Datasheet; ComponentLink2URL: http://www.onsemi.com/pub_link/Collateral/NTHD4102P-D.PDF; ComponentLink3Description: Package Specification; ComponentLink3URL: http://www.onsemi.com/pub_link/Collateral/NTHC5513-D.PDF
footprint ONSC-CHIPFET-8-1206A-03_S2_V (SON, 8-Leads, Body 3.025x1.625mm, Pitch 0.635mm)
part A pins: 1 S1, 2 G1, 7 D1, 8 D1
part B pins: 3 S2, 4 G2, 5 D2, 6 D2
part A text: 7, 8
part B text: 5, 6

## NTHD4502NT1G
designator Q?
Power MOSFET, 30 V, 3.9 A, Dual N-Channel, 8-Pin CHIPFET, Pb-Free, Tape and Reel; Manufacturer: On Semiconductor; PartNumber: NTHD4502NT1G; Channel Polarity: N Channel; ID Max (A): 3.9; Qrr Typ (nC): 4; V(BR)DSS Min (V): 30; VGS Max (V): 20; VGS(th) Max (V): 3; DatasheetVersion: Rev. 6; PackageVersion: Rev. E, 10/2004; PackageReference: CHIPFET-8-1206A-03_S2; PackageDescription: 8-Pin ChipFET, Body 3.025 x 1.625 mm, Pitch 0.635 mm; Configuration: Dual; Package Type: ChipFET-8; Packing: Tape and Reel; RoHS: Pb-Free; Mounting Technology: Surface Mount; ComponentLink1Description: Manufacturer URL; ComponentLink1URL: http://www.onsemi.com/; ComponentLink2Description: Datasheet; ComponentLink2URL: http://www.onsemi.com/pub_link/Collateral/NTHD4502N-D.PDF; ComponentLink3Description: Package Specification; ComponentLink3URL: http://www.onsemi.com/pub_link/Collateral/NTHC5513-D.PDF
footprint ONSC-CHIPFET-8-1206A-03_S2_V (SON, 8-Leads, Body 3.025x1.625mm, Pitch 0.635mm)
part A pins: 1 S1, 2 G1, 7 D1, 8 D1
part B pins: 3 S2, 4 G2, 5 D2, 6 D2
part A text: 7, 8
part B text: 5, 6

## NTHD4508NT1
designator Q?
Power MOSFET, 20 V, 4.1 A, Dual N-Channel, 8-Pin CHIPFET, Tape and Reel; Manufacturer: On Semiconductor; PartNumber: NTHD4508NT1; Channel Polarity: N Channel; Ciss Typ (pF): 180; Coss Typ (pF): 80; Crss Typ (pF): 25; ID Max (A): 4.1; Qrr Typ (nC): 6; V(BR)DSS Min (V): 20; VGS Max (V): 12; VGS(th) Max (V): 1.2; DatasheetVersion: Rev. 3; PackageVersion: Rev. E, 10/2004; PackageReference: CHIPFET-8-1206A-03_S2; PackageDescription: 8-Pin ChipFET, Body 3.025 x 1.625 mm, Pitch 0.635 mm; Configuration: Dual; Package Type: ChipFET-8; Packing: Tape and Reel; Mounting Technology: Surface Mount; ComponentLink1Description: Manufacturer URL; ComponentLink1URL: http://www.onsemi.com/; ComponentLink2Description: Datasheet; ComponentLink2URL: http://www.onsemi.com/pub_link/Collateral/NTHD4508N-D.PDF; ComponentLink3Description: Package Specification; ComponentLink3URL: http://www.onsemi.com/pub_link/Collateral/NTHC5513-D.PDF
footprint ONSC-CHIPFET-8-1206A-03_S2_V (SON, 8-Leads, Body 3.025x1.625mm, Pitch 0.635mm)
part A pins: 1 S1, 2 G1, 7 D1, 8 D1
part B pins: 3 S2, 4 G2, 5 D2, 6 D2
part A text: 7, 8
part B text: 5, 6

## NTHD4508NT1G
designator Q?
Power MOSFET, 20 V, 4.1 A, Dual N-Channel, 8-Pin CHIPFET, Pb-Free, Tape and Reel; Manufacturer: On Semiconductor; PartNumber: NTHD4508NT1G; Channel Polarity: N Channel; Ciss Typ (pF): 180; Coss Typ (pF): 80; Crss Typ (pF): 25; ID Max (A): 4.1; Qrr Typ (nC): 6; V(BR)DSS Min (V): 20; VGS Max (V): 12; VGS(th) Max (V): 1.2; DatasheetVersion: Rev. 3; PackageVersion: Rev. E, 10/2004; PackageReference: CHIPFET-8-1206A-03_S2; PackageDescription: 8-Pin ChipFET, Body 3.025 x 1.625 mm, Pitch 0.635 mm; Configuration: Dual; Package Type: ChipFET-8; Packing: Tape and Reel; RoHS: Pb-Free; Mounting Technology: Surface Mount; ComponentLink1Description: Manufacturer URL; ComponentLink1URL: http://www.onsemi.com/; ComponentLink2Description: Datasheet; ComponentLink2URL: http://www.onsemi.com/pub_link/Collateral/NTHD4508N-D.PDF; ComponentLink3Description: Package Specification; ComponentLink3URL: http://www.onsemi.com/pub_link/Collateral/NTHC5513-D.PDF
footprint ONSC-CHIPFET-8-1206A-03_S2_V (SON, 8-Leads, Body 3.025x1.625mm, Pitch 0.635mm)
part A pins: 1 S1, 2 G1, 7 D1, 8 D1
part B pins: 3 S2, 4 G2, 5 D2, 6 D2
part A text: 7, 8
part B text: 5, 6